# EAGLE library part TPS56339_TPS56339 (library Filter Board)
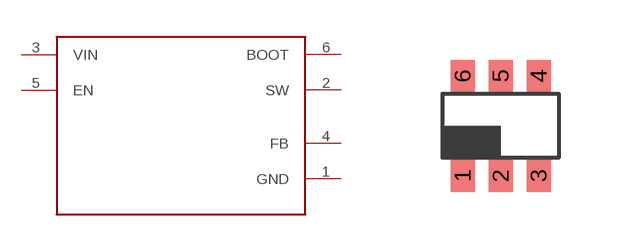
[diagram p2: symbol with the pads of TPS56339_TSOT23-6_DDC; footprint TPS56339_TSOT23-6_DDC]

Designator prefix -

## TPS56339_TPS56339  [TPS56339_TSOT23-6_DDC]
1  GND
2  SW
3  VIN
4  FB
5  EN
6  BOOT

## Footprint TPS56339_TSOT23-6_DDC (pad centres in mm)
DDC (R-PDSO-G6) PLASTIC SMALL OUTLINE PACKAGE Source: http://focus.ti.com/lit/ds/symlink/tps61070.pdf
smd 0.6 x 0.8: 1 -0.95,-1.25; 2 0,-1.25; 3 0.95,-1.25; 4 0.95,1.25; 5 0,1.25; 6 -0.95,1.25